# Altium footprint library SN74AVCH16T245DGV.PcbLib: 3 footprints
Each footprint in its own frame and in the unit in brackets; x right, y up, seen from the top. Pads: shape width x height; smd on the part's side, far side on the other; paste and mask are expansions set on the pad; w line width, h text height; cw(c..) or ccw(c..) is an arc to the next point about the centre after c.
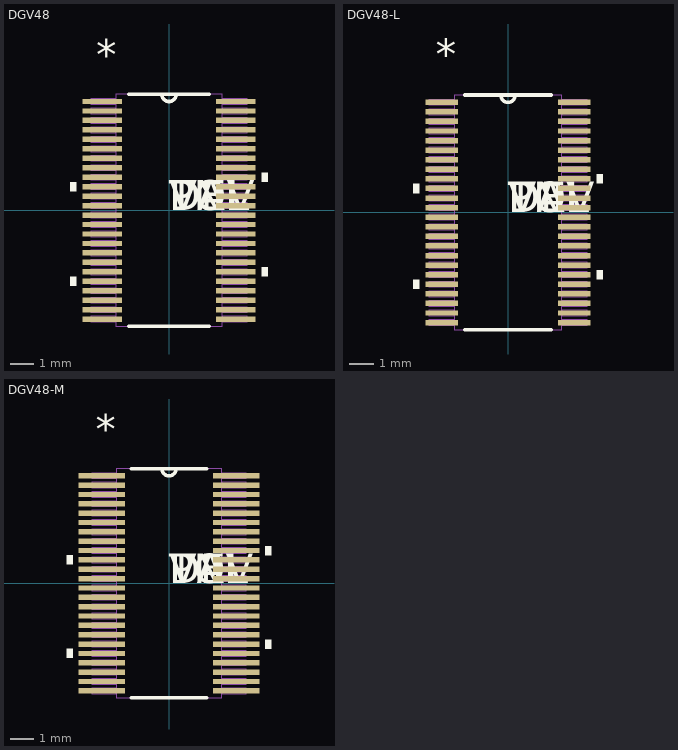
[diagram p0: the footprints below, top view; thin cyan lines are the x and y axes]

## DGV48 [mil]
pads (48):
  rect 66x9 smd: 1(-111,181.1) 2(-111,165.35) 3(-111,149.61) 4(-111,133.86) 5(-111,118.11) 6(-111,102.36) 7(-111,86.61) 8(-111,70.87) 9(-111,55.12) 10(-111,39.37) 11(-111,23.62) 12(-111,7.87) 13(-111,-7.87) 14(-111,-23.62) 15(-111,-39.37) 16(-111,-55.12) 17(-111,-70.87) 18(-111,-86.61) 19(-111,-102.36) 20(-111,-118.11) 21(-111,-133.86) 22(-111,-149.61) 23(-111,-165.35) 24(-111,-181.1) 25(111,-181.1) 26(111,-165.35) 27(111,-149.61) 28(111,-133.86) 29(111,-118.11) 30(111,-102.36) 31(111,-86.61) 32(111,-70.87) 33(111,-55.12) 34(111,-39.37) 35(111,-23.62) 36(111,-7.87) 37(111,7.87) 38(111,23.62) 39(111,39.37) 40(111,55.12) 41(111,70.87) 42(111,86.61) 43(111,102.36) 44(111,118.11) 45(111,133.86) 46(111,149.61) 47(111,165.35) 48(111,181.1)
Top Overlay:
  region: -154,46.87 -164,46.87 -164,31.87 -154,31.87
  region: -154,-110.61 -164,-110.61 -164,-125.61 -154,-125.61
  region: 154,-94.86 164,-94.86 164,-109.86 154,-109.86
  region: 154,62.62 164,62.62 164,47.62 154,47.62
  lines w6: -67.19,-193 67.19,-193 ; -67.19,193 67.19,193 ; -12,193 ccw(c0,193) 12,193
  text "*" at -121,235.1 h50
  text "PN" at 0,0 h50
  text "DEV" at 0,0 h50
  text "VAL" at 0,0 h50
  text "TOL" at 0,0 h50
Mechanical 1:
  drawing of 197 lines, arcs and shapes, not listed
  text "*" at -121,235.1 h50
  text "RefDes2" at 0,0 h50

## DGV48-L [mil]
pads (48):
  rect 54x9 smd: 1(-109,181.1) 2(-109,165.35) 3(-109,149.61) 4(-109,133.86) 5(-109,118.11) 6(-109,102.36) 7(-109,86.61) 8(-109,70.87) 9(-109,55.12) 10(-109,39.37) 11(-109,23.62) 12(-109,7.87) 13(-109,-7.87) 14(-109,-23.62) 15(-109,-39.37) 16(-109,-55.12) 17(-109,-70.87) 18(-109,-86.61) 19(-109,-102.36) 20(-109,-118.11) 21(-109,-133.86) 22(-109,-149.61) 23(-109,-165.35) 24(-109,-181.1) 25(109,-181.1) 26(109,-165.35) 27(109,-149.61) 28(109,-133.86) 29(109,-118.11) 30(109,-102.36) 31(109,-86.61) 32(109,-70.87) 33(109,-55.12) 34(109,-39.37) 35(109,-23.62) 36(109,-7.87) 37(109,7.87) 38(109,23.62) 39(109,39.37) 40(109,55.12) 41(109,70.87) 42(109,86.61) 43(109,102.36) 44(109,118.11) 45(109,133.86) 46(109,149.61) 47(109,165.35) 48(109,181.1)
Top Overlay:
  region: -146,46.87 -156,46.87 -156,31.87 -146,31.87
  region: -146,-110.61 -156,-110.61 -156,-125.61 -146,-125.61
  region: 146,-94.86 156,-94.86 156,-109.86 146,-109.86
  region: 146,62.62 156,62.62 156,47.62 146,47.62
  lines w6: -71.19,-193 71.19,-193 ; -71.19,193 71.19,193 ; -12,193 ccw(c0,193) 12,193
  text "*" at -119,235.1 h50
  text "PN" at 0,0 h50
  text "DEV" at 0,0 h50
  text "VAL" at 0,0 h50
  text "TOL" at 0,0 h50
Mechanical 1:
  drawing of 197 lines, arcs and shapes, not listed
  text "*" at -119,235.1 h50
  text "RefDes2" at 0,0 h50

## DGV48-M [mil]
pads (48):
  rect 78x9 smd: 1(-113,181.1) 2(-113,165.35) 3(-113,149.61) 4(-113,133.86) 5(-113,118.11) 6(-113,102.36) 7(-113,86.61) 8(-113,70.87) 9(-113,55.12) 10(-113,39.37) 11(-113,23.62) 12(-113,7.87) 13(-113,-7.87) 14(-113,-23.62) 15(-113,-39.37) 16(-113,-55.12) 17(-113,-70.87) 18(-113,-86.61) 19(-113,-102.36) 20(-113,-118.11) 21(-113,-133.86) 22(-113,-149.61) 23(-113,-165.35) 24(-113,-181.1) 25(113,-181.1) 26(113,-165.35) 27(113,-149.61) 28(113,-133.86) 29(113,-118.11) 30(113,-102.36) 31(113,-86.61) 32(113,-70.87) 33(113,-55.12) 34(113,-39.37) 35(113,-23.62) 36(113,-7.87) 37(113,7.87) 38(113,23.62) 39(113,39.37) 40(113,55.12) 41(113,70.87) 42(113,86.61) 43(113,102.36) 44(113,118.11) 45(113,133.86) 46(113,149.61) 47(113,165.35) 48(113,181.1)
Top Overlay:
  region: -162,46.87 -172,46.87 -172,31.87 -162,31.87
  region: -162,-110.61 -172,-110.61 -172,-125.61 -162,-125.61
  region: 162,-94.86 172,-94.86 172,-109.86 162,-109.86
  region: 162,62.62 172,62.62 172,47.62 162,47.62
  lines w6: -63.19,-193 63.19,-193 ; -63.19,193 63.19,193 ; -12,193 ccw(c0,193) 12,193
  text "*" at -123,235.1 h50
  text "PN" at 0,0 h50
  text "DEV" at 0,0 h50
  text "VAL" at 0,0 h50
  text "TOL" at 0,0 h50
Mechanical 1:
  drawing of 197 lines, arcs and shapes, not listed
  text "*" at -123,235.1 h50
  text "RefDes2" at 0,0 h50